# Altium footprint library connectors.PcbLib: 143 footprints (part 2 of 9)
Each footprint in its own frame and in the unit in brackets; x right, y up, seen from the top. Pads: shape width x height; smd on the part's side, far side on the other; paste and mask are expansions set on the pad; w line width, h text height; cw(c..) or ccw(c..) is an arc to the next point about the centre after c.
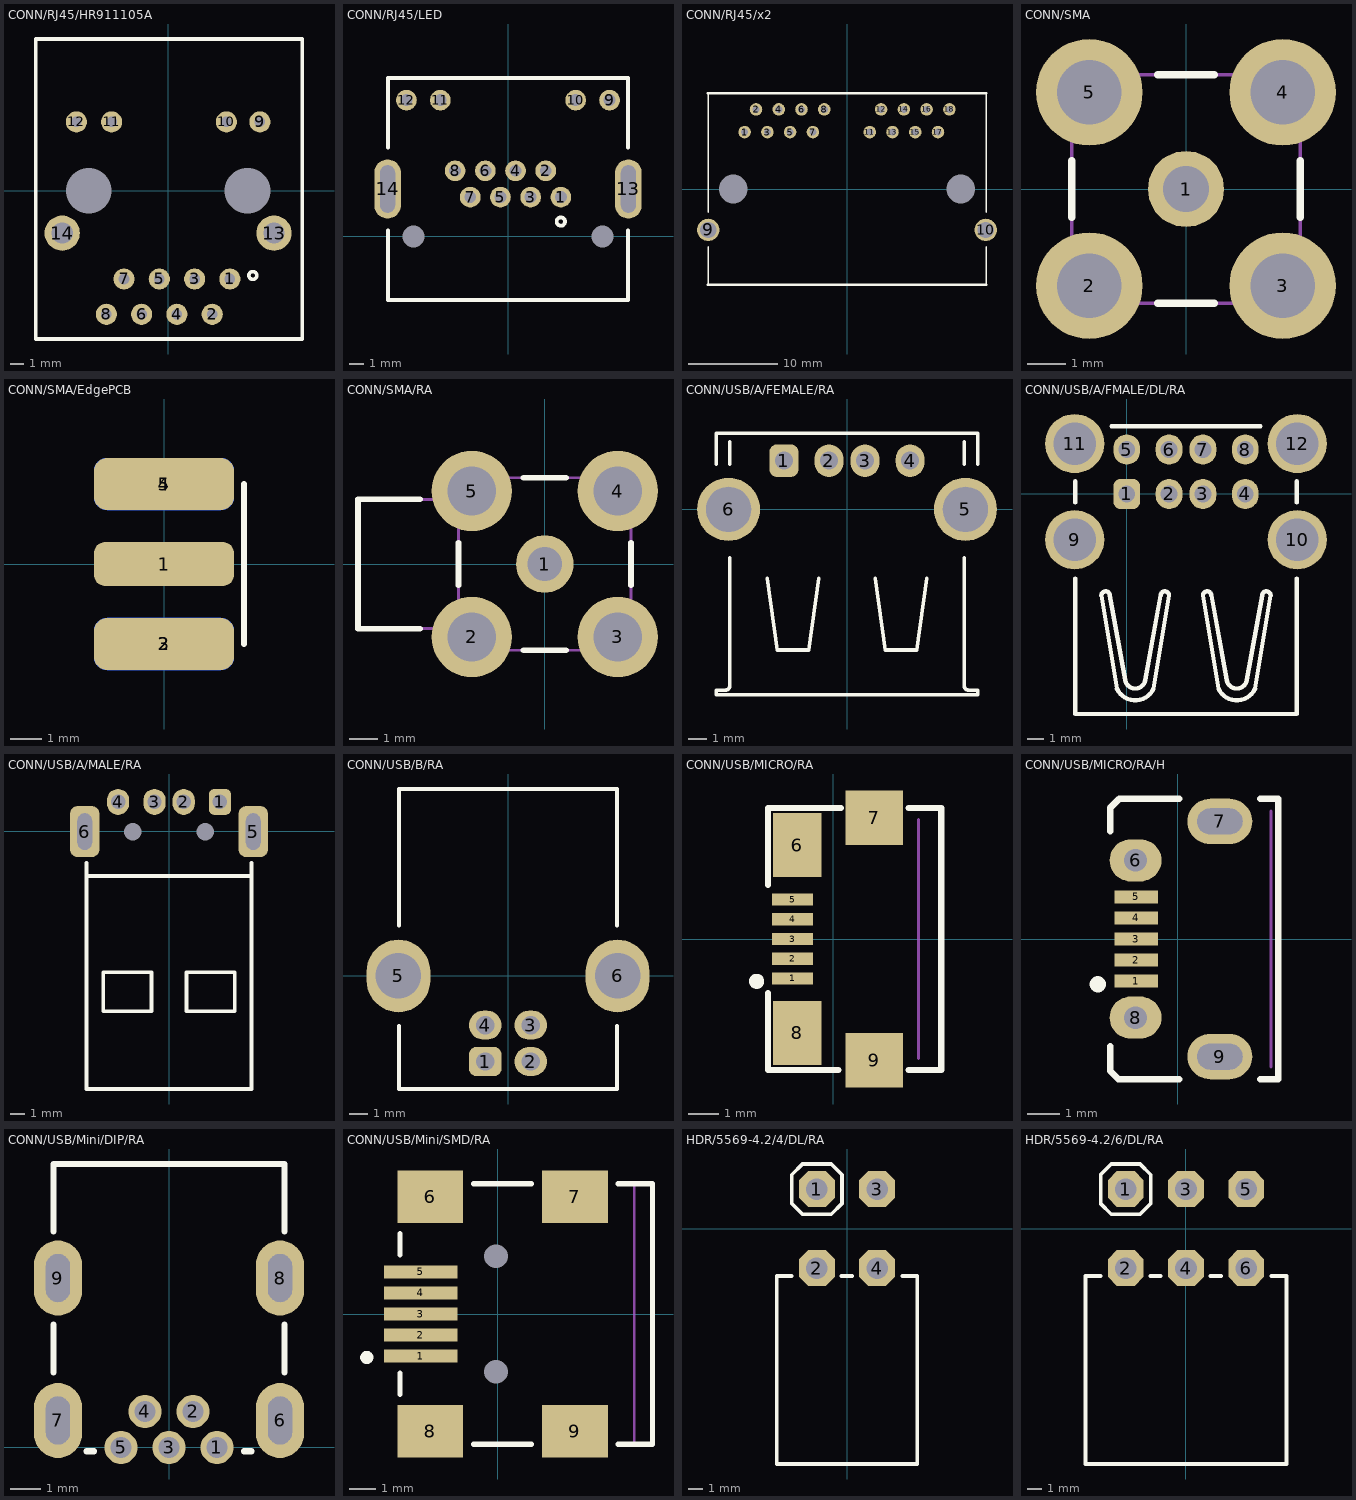
[diagram p1: the footprints below, top view; thin cyan lines are the x and y axes]

## CONN/RJ45/HR911105A [mil]
pads (16):
  round 60 hole 30: 1(175,-250) 2(125,-350) 3(75,-250) 4(25,-350) 5(-25,-250) 6(-75,-350) 7(-125,-250) 8(-175,-350) 9(260,195) 10(165,195) 11(-160,195) 12(-260,195)
  round 100 hole 60: 13(300,-120) 14(-300,-120)
  round 0 hole 130 unplated: ""(-225,0) ""(225,0)
Top Overlay:
  circle w10: c240,-240 r11.18
  lines w10: -375,-420 380,-420 380,430 300,430 -300,430 -375,430 -375,425 -375,-420
3D body "User Library-hr911105.step": height 530, standoff -119.61, extent -312.6,-417.52 312.6,425

## CONN/RJ45/LED [mm]
pads (16):
  round 1.4 hole 0.8: 1(3.57,2.65) 2(2.55,4.43) 3(1.53,2.65) 4(0.51,4.43) 5(-0.51,2.65) 6(-1.53,4.43) 7(-2.55,2.65) 8(-3.57,4.43) 9(6.86,9.2) 10(4.57,9.2) 11(-4.57,9.2) 12(-6.86,9.2)
  oval 1.8x4 hole 3.2 slot 1 at 0 deg: 13(8.13,3.2) 14(-8.13,3.2)
  round 0 hole 1.5 unplated: ""(-6.375,0) ""(6.375,0)
Top Overlay:
  circle w0.254: c3.57,1 r0.284
  lines w0.254: -8.1,0.4 -8.1,-4.3 8.1,-4.3 8.1,0.4 ; -8.1,6 -8.1,10.7 8.1,10.7 8.1,6
3D body "ACC-M-RJE73-188-00XX0-REVT1.step": height 11.79, standoff -1.79, extent -8.07,-4.3 8.07,10.949

## CONN/RJ45/x2 [mm]
pads (20):
  round 1.4 hole 0.8: 1(-11.43,6.35) 2(-10.16,8.89) 3(-8.89,6.35) 4(-7.62,8.89) 5(-6.35,6.35) 6(-5.08,8.89) 7(-3.81,6.35) 8(-2.54,8.89) 11(2.54,6.35) 12(3.81,8.89) 13(5.08,6.35) 14(6.35,8.89) 15(7.62,6.35) 16(8.89,8.89) 17(10.16,6.35) 18(11.43,8.89)
  round 2.5 hole 1.8: 9(-15.5,-4.57) 10(15.5,-4.57)
  round 0 hole 3.2 unplated: HOLE(-12.7,0) HOLE(12.7,0)
Top Overlay:
  lines w0.2: -15.5,-10.7 -15.5,-6.44 ; -15.5,-2.56 -15.5,10.7 ; 15.56,-10.7 15.56,-6.44 ; 15.56,-2.56 15.56,10.7
  lines w0.254: -15.56,-10.7 15.56,-10.7 ; -15.56,10.7 15.56,10.7
3D body "User Library-hr911105.step": height 13.46, standoff -3.04, extent -15.5,-10.7 0.38,10.7
3D body "User Library-hr911105.step": height 13.46, standoff -3.04, extent -0.32,-10.7 15.56,10.7

## CONN/SMA [mm] "Connector; RF Coaxial, MCX, Thru-Hole; 5 Position; Right Angle"
height 5.99
pads (5):
  round 2 hole 1.2: 1(0,0)
  round 2.8 hole 1.7: 2(-2.54,-2.54) 3(2.54,-2.54) 4(2.54,2.54) 5(-2.54,2.54)
Top Overlay:
  lines w0.2: -3,-0.74 -3,0.74 ; -0.74,-3 0.74,-3 ; -0.74,3 0.74,3 ; 3,-0.74 3,0.74
Mechanical 13:
  lines w0.1: -3,-3 -3,3 3,3 3,-3 -3,-3
3D body "User Library-SMA_Stehend_Amp 132134RP-1.STEP": height 9.53, standoff -3.94, extent -3.444,-3.5 3.556,3.5

## CONN/SMA/EdgePCB [mil] "Connector; RF Coaxial, MCX, Thru-Hole; 5 Position; Right Angle"
height 235.83
pads (5):
  rrect50% 175x55 smd: 1(0,0)
  rrect50% 175x65 smd far side: 2(0,-100) 4(0,100)
  rrect50% 175x65 smd: 3(0,-100) 5(0,100)
Top Overlay:
  lines w8: 100,-100 100,100

## CONN/SMA/RA [mm] "Connector; RF Coaxial, MCX, Thru-Hole; 5 Position; Right Angle"
height 5.99
pads (5):
  round 2 hole 1.2: 1(0,0)
  round 2.8 hole 1.7: 2(-2.54,-2.54) 3(2.54,-2.54) 4(2.54,2.54) 5(-2.54,2.54)
Top Overlay:
  lines w0.2: -4.34,-2.25 -6.5,-2.25 -6.5,2.25 -4.34,2.25 ; -3,-0.74 -3,0.74 ; -0.74,-3 0.74,-3 ; -0.74,3 0.74,3 ; 3,-0.74 3,0.74
Mechanical 13:
  lines w0.1: -3,-2.25 -6.5,-2.25 -6.5,2.25 -3,2.25 ; -3,-3 -3,3 3,3 3,-3 -3,-3
3D body "User Library-919-119J-51AX.step": height 5.9, standoff -3.94, extent -6.5,-3 3,3

## CONN/USB/A/FEMALE/RA [mm]
pads (6):
  rrect50% 1.6x1.8 hole 1: 1(-3.5,2.7)
  oval 1.6x1.8 hole 1: 2(-1,2.7) 3(1,2.7) 4(3.5,2.7)
  round 3.5 hole 2.5: 5(6.57,0) 6(-6.57,0)
Top Overlay:
  lines w0.203: -7.25,2.5 -7.25,4.22 7.25,4.22 7.25,2.5 ; -6.5,-2.675 -6.5,-9.78 cw(c-6.745,-9.78) -6.745,-10.025 -7.25,-10.025 -7.25,-10.28 7.25,-10.28 7.25,-10.025 6.745,-10.025 cw(c6.745,-9.78) 6.5,-9.78 6.5,-2.675 ; -6.5,2.5 -6.5,3.75 ; -4.425,-3.825 -3.875,-7.8 -3,-7.8 -2.125,-7.8 -1.575,-3.825 ; 1.575,-3.825 2.125,-7.8 3,-7.8 3.875,-7.8 4.425,-3.825 ; 6.5,2.5 6.5,3.75
3D body "14388.stp": height 7, standoff -3.85, extent -7.9,-10.375 7.9,4.125

## CONN/USB/A/FMALE/DL/RA [mm] "USB 2.0 R/A Dual FMALE TYPE A"
pads (12):
  rrect50% 1.575x1.778 hole 1: 1(0,0)
  oval 1.575x1.778 hole 1: 2(2.5,0) 3(4.5,0) 4(7,0) 5(0,2.625) 6(2.5,2.625) 7(4.5,2.625) 8(7,2.625)
  round 3.5 hole 2.5: 9(-3.075,-2.7) 10(10.075,-2.7) 11(-3.075,2.975) 12(10.075,2.975)
Top Overlay:
  lines w0.254: -3.05,-5 -3.05,-13 10.05,-13 10.05,-5 ; -3.05,-0.5 -3.05,0.75 ; -0.9,4 7.9,4 ; 10.05,-0.5 10.05,0.75 ; -1.5,-6 cw(c-1.25,-6) -1,-6 -0.091,-11 ccw(c0.5,-10.901) 1.091,-11 2,-6 cw(c2.25,-6) 2.5,-6 1.583,-11.5 cw(c0.5,-11) -0.583,-11.5 -1.5,-6 ; 4.5,-6 cw(c4.75,-6) 5,-6 5.909,-11 ccw(c6.5,-10.901) 7.091,-11 8,-6 cw(c8.25,-6) 8.5,-6 7.583,-11.5 cw(c6.5,-11) 5.417,-11.5 4.5,-6
3D body "USB A type ra dual port DIP.stp": height 16.2, standoff -3.2, extent -4.35,-13.598 11.35,4

## CONN/USB/A/MALE/RA [mil]
pads (8):
  rrect50% 60x70 hole 39: 1(137.5,79.37)
  oval 60x70 hole 39: 2(39.65,79.37) 3(-39.08,79.37) 4(-137.5,79.37)
  rrect50% 78.74x137.8 hole 39.37 slot 98.43 at 90 deg: 5(227.5,-0.63) 6(-227.5,-0.63)
  round 0 hole 47.24 unplated: H1(-97.5,-0.63) H2(97.5,-0.63)
Top Overlay:
  lines w10: -222.5,-120.63 217.5,-120.63 ; -222.5,-85.63 -222.5,-695.63 222.5,-695.63 222.5,-85.63 ; -177.5,-485.63 -47.5,-485.63 -47.5,-380.63 -177.5,-380.63 -177.5,-485.63 ; 47.5,-485.63 47.5,-380.63 177.5,-380.63 177.5,-485.63 47.5,-485.63
3D body "User Library-USB Series A Plug.step": height 77.17, standoff -100, extent -237.5,-692.28 234.94,29.37

## CONN/USB/B/RA [mm]
pads (6):
  rrect50% 1.8x1.6 hole 1: 1(-1.25,-4.71)
  oval 1.8x1.6 hole 1: 2(1.25,-4.71) 3(1.25,-2.71) 4(-1.25,-2.71)
  oval 3.5x4 hole 2.5: 5(-6.025,0) 6(6.025,0)
Top Overlay:
  lines w0.203: -6,-2.75 -6,-6.22 6,-6.22 6,-2.75 ; -6,2.775 -6,10.28 6,10.28 6,2.775
3D body "User Library-Samtec - USB-B-S-X-W-TH.STEP": height 11.18, standoff -3.47, extent -7.366,-6.218 7.431,10.282

## CONN/USB/MICRO/RA [mm]
pads (9):
  rect 1.35x0.4 smd: 1(-1.35,-1.3) 2(-1.35,-0.65) 3(-1.35,0) 4(-1.35,0.65) 5(-1.35,1.3)
  rect 1.6x2.1 smd: 6(-1.196,3.1) 8(-1.2,-3.1)
  rect 1.9x1.8 smd: 7(1.35,4) 9(1.35,-4)
Top Overlay:
  circle w0.25: c-2.538,-1.397 r0.125
  lines w0.2: -2.159,-1.778 -2.159,-4.318 0.168,-4.318 ; -2.159,1.778 -2.159,4.318 0.254,4.318 ; 2.471,-4.318 3.556,-4.318 3.556,4.318 2.471,4.318
Mechanical 1:
  lines w0.1: 2.8,-3.95 2.8,3.95
  text "PCB Edge" at 3.175,-3.937 h0.25
3D body "User Library-Micro USB.step": height 2.74, standoff -0.2, extent -1.5,-3.99 3.93,3.99

## CONN/USB/MICRO/RA/H [mm]
pads (9):
  rect 1.35x0.4 smd: 1(-1.275,-1.3) 2(-1.275,-0.65) 3(-1.275,0) 4(-1.275,0.65) 5(-1.275,1.3)
  oval 1.6x1.3 hole 0.7: 6(-1.3,2.425) 8(-1.3,-2.425)
  oval 2x1.4 hole 0.8 slot 1.4 at 0 deg: 7(1.3,3.625) 9(1.3,-3.625)
Top Overlay:
  circle w0.25: c-2.463,-1.397 r0.125
  lines w0.2: -2.084,-3.3 -2.084,-4.066 -1.832,-4.318 0.05,-4.318 ; -2.084,3.325 -2.084,4.041 -1.807,4.318 0.05,4.318 ; 2.546,-4.318 3.1,-4.318 3.1,4.318 2.546,4.318
Mechanical 1:
  lines w0.1: 2.875,-3.95 2.875,3.95
  text "PCB Edge" at 3.25,-3.937 h0.25
3D body "User Library-Micro USB.step": height 2.74, standoff -0.2, extent -1.55,-3.99 3.88,3.99

## CONN/USB/Mini/DIP/RA [mm] "Connector; USB2.0, Type B, SM; 5 Position; Right Angle"
height 3.9
pads (9):
  round 1.1 hole 0.7: 1(1.6,0) 2(0.8,1.2) 3(0,0) 4(-0.8,1.2) 5(-1.6,0)
  oval 1.6x2.5 hole 0.8 slot 1.6 at 90 deg: 6(3.7,0.9) 7(-3.7,0.9) 8(3.7,5.65) 9(-3.7,5.65)
Top Overlay:
  lines w0.203: -3.85,2.5 -3.85,4.1 ; -3.85,7.2 -3.85,9.45 3.85,9.45 3.85,7.2 ; -2.75,-0.125 -2.5,-0.125 ; 2.5,-0.125 2.75,-0.125 ; 3.85,2.5 3.85,4.1
3D body "User Library-USB-Mini-B.step": height 3.45, standoff -2.3, extent -3.85,-0.25 3.85,8.75

## CONN/USB/Mini/SMD/RA [mm] "Connector; USB2.0, Type B, SM; 5 Position; Right Angle"
height 3.9
pads (11):
  rect 2.794x0.5 smd: 1(-2.927,-1.6) 2(-2.927,-0.8) 3(-2.927,0) 4(-2.927,0.8) 5(-2.927,1.6)
  rect 2.5x2 smd: 6(-2.573,4.45) 7(2.927,4.45) 8(-2.573,-4.45) 9(2.927,-4.45)
  round 0 hole 0.9 unplated: MH1(-0.073,2.2) MH2(-0.073,-2.2)
Top Overlay:
  circle w0.25: c-4.981,-1.651 r0.125
  lines w0.2: -3.723,-3.05 -3.723,-2.25 ; -3.723,2.25 -3.723,3.05 ; -0.923,-4.95 1.277,-4.95 ; -0.923,4.95 1.277,4.95 ; 4.577,-4.95 5.877,-4.95 5.877,4.95 4.577,4.95
Mechanical 1:
  lines w0.1: 5.177,-4.95 5.177,4.95
  text "PCB Edge" at 5.609,-4.036 h0.25
3D body "SW3dPS-c-1734035-1-a-3d.STEP": height 4.17, standoff -0.92, extent -3.388,-4.975 5.812,4.925

## HDR/5569-4.2/4/DL/RA [mm] "Header 6, 6 pin, hight 300mil, Pin to Pin 200, Colour Green"
height 7.62
pads (4):
  oct 2.5x2.5 hole 1.5: 1(-2.1,2.75) 2(-2.1,-2.75) 3(2.1,2.75) 4(2.1,-2.75)
Top Overlay:
  lines w0.254: -3.85,-3.3 -4.9,-3.3 -4.9,-16.4 4.9,-16.4 4.9,-3.3 3.85,-3.3 ; -0.4,-3.3 0.35,-3.3 ; -3.85,1.75 -3.1,1 -1.1,1 -0.35,1.75 -0.35,3.75 -1.1,4.5 -3.1,4.5 -3.85,3.75 -3.85,1.75
3D body "39-29-1047_4674.stp": height 11.4, standoff -3.5, extent -9.8,-16.65 9.8,3.25

## HDR/5569-4.2/6/DL/RA [mm] "Header 6, 6 pin, hight 300mil, Pin to Pin 200, Colour Green"
height 7.62
pads (6):
  oct 2.5x2.5 hole 1.5: 1(-4.2,2.75) 2(-4.2,-2.75) 3(0,2.75) 4(0,-2.75) 5(4.2,2.75) 6(4.2,-2.75)
Top Overlay:
  lines w0.254: -5.95,-3.3 -7,-3.3 -7,-16.4 7,-16.4 7,-3.3 5.95,-3.3 ; -2.5,-3.3 -1.75,-3.3 ; 1.7,-3.3 2.45,-3.3 ; -5.95,1.75 -5.2,1 -3.2,1 -2.45,1.75 -2.45,3.75 -3.2,4.5 -5.2,4.5 -5.95,3.75 -5.95,1.75
3D body "39-29-1068_4677.stp": height 11.4, standoff -3.5, extent -11.9,-16.65 11.9,3.25